# Altium footprint library Mylib.PcbLib: 16 footprints
Each footprint in its own frame and in the unit in brackets; x right, y up, seen from the top. Pads: shape width x height; smd on the part's side, far side on the other; paste and mask are expansions set on the pad; w line width, h text height; cw(c..) or ccw(c..) is an arc to the next point about the centre after c.
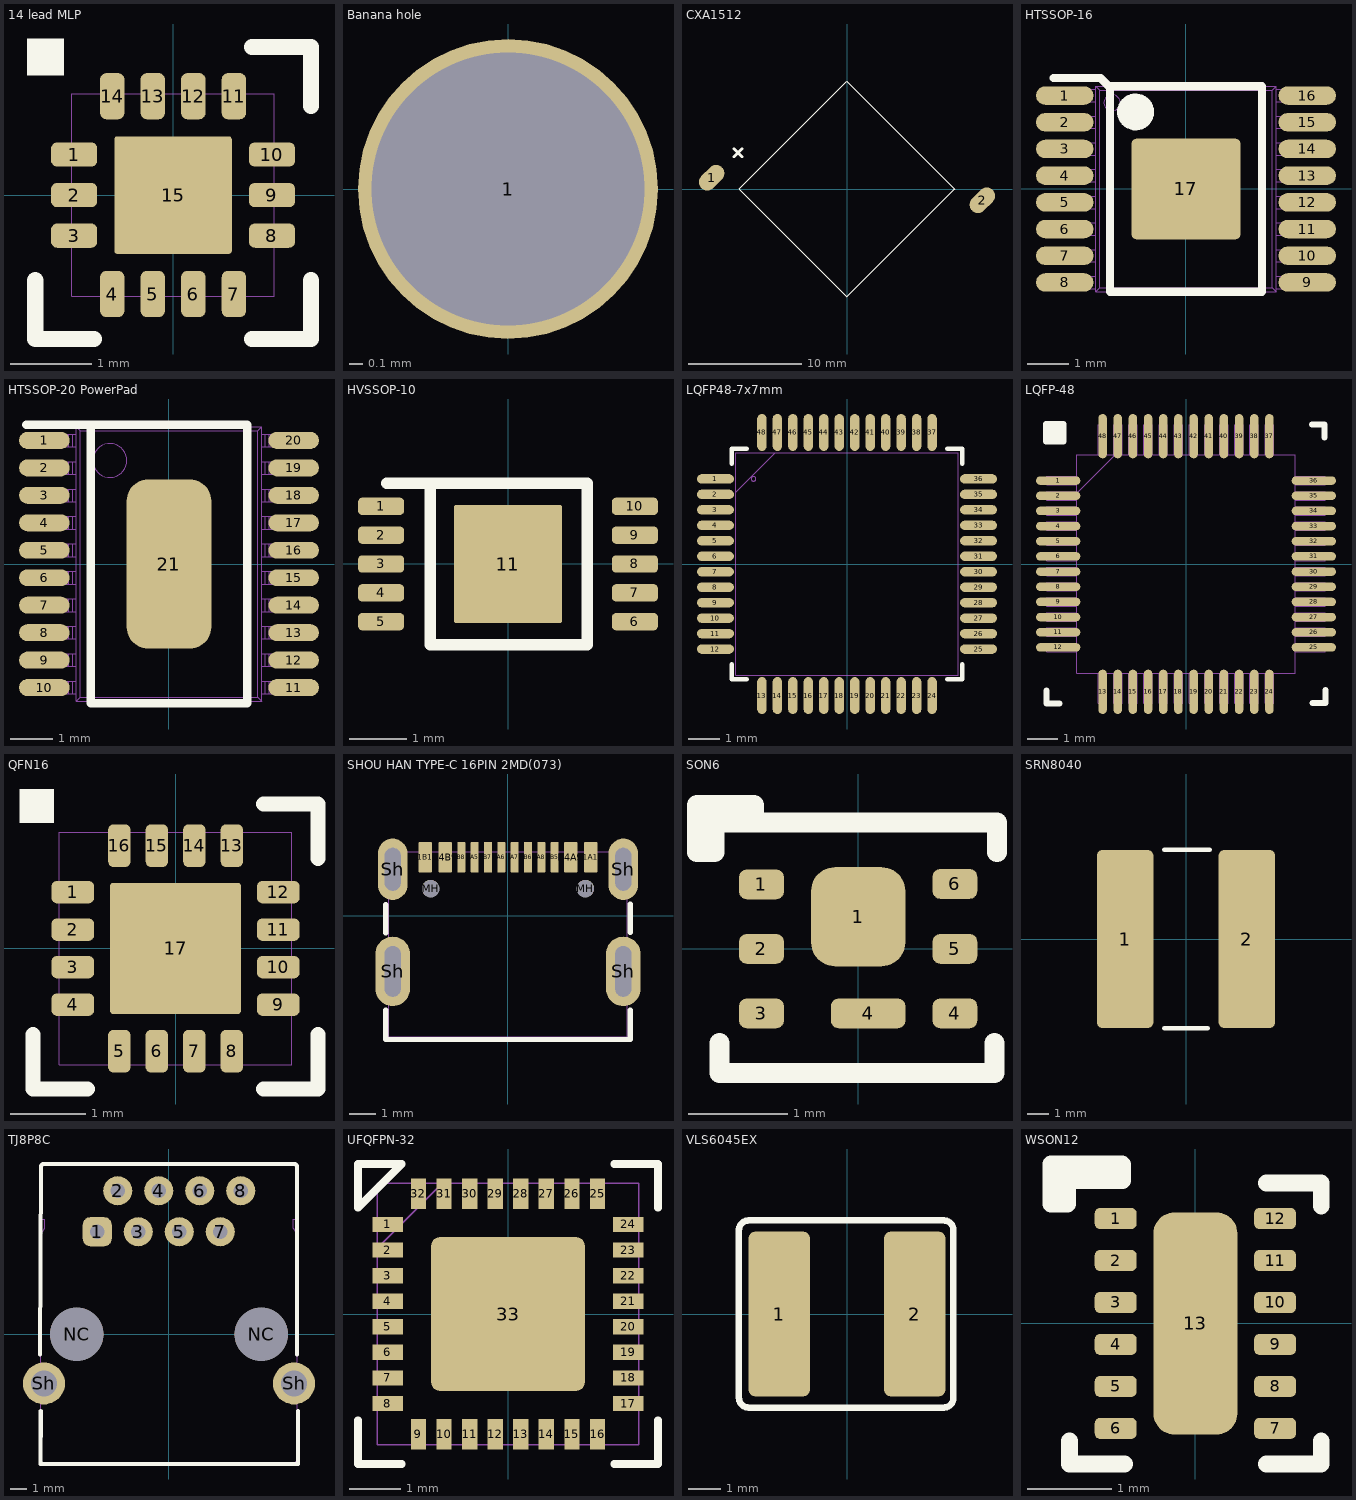
[diagram p0: the footprints below, top view; thin cyan lines are the x and y axes]

## 14 lead MLP [mm]
pads (15):
  rrect50% 0.57x0.3 smd: 1(-1.22,0.5) 2(-1.22,0) 3(-1.22,-0.5) 8(1.22,-0.5) 9(1.22,0) 10(1.22,0.5)
  rrect50% 0.3x0.57 smd: 4(-0.75,-1.22) 5(-0.25,-1.22) 6(0.25,-1.22) 7(0.75,-1.22) 11(0.75,1.22) 12(0.25,1.22) 13(-0.25,1.22) 14(-0.75,1.22)
  rrect5% 1.45x1.45 smd: 15(0,0)
Top Overlay:
  region: -1.8,1.475 -1.35,1.475 -1.35,1.925 -1.8,1.925
  lines w0.2: -1.7,-1.05 -1.7,-1.775 -0.975,-1.775 ; 0.975,-1.775 1.7,-1.775 1.7,-1.05 ; 0.975,1.825 1.7,1.825 1.7,1.1
Mechanical 9:
  text ".Comment" at -1.09,-1.627 h0.5
Mechanical 13:
  lines w0.013: -1.25,-1.25 -1.25,1.25 1.25,1.25 1.25,-1.25 -1.25,-1.25
3D body "User Library-MLP14_2P5X2P5_ONS.STEP": height 0.51, standoff 0, extent -1.245,-1.245 1.245,1.245

## Banana hole [mm] "Hole for Banana conn 2mm"
pads (1):
  round 2.2 hole 2 mask-1: 1(0,0)

## CXA1512 [mm]
pads (2):
  oval 2.6x1.5 smd rot 45: 1(-12,1) 2(12,-1)
Top Overlay:
  lines w0.1: -9.551,-0.004 -0.005,-9.55 ; -9.55,0.005 -0.004,9.551 ; -0.001,9.546 9.545,0 ; 0,-9.545 9.546,0.001
  lines w0.254: -10.008,2.856 -9.301,3.563 ; -10.008,3.563 -9.301,2.856

## HTSSOP-16 [mm]
pads (17):
  oval 1.4x0.45 smd: 1(-2.95,2.275) 2(-2.95,1.625) 3(-2.95,0.975) 4(-2.95,0.325) 5(-2.95,-0.325) 6(-2.95,-0.975) 7(-2.95,-1.625) 8(-2.95,-2.275) 9(2.95,-2.275) 10(2.95,-1.625) 11(2.95,-0.975) 12(2.95,-0.325) 13(2.95,0.325) 14(2.95,0.975) 15(2.95,1.625) 16(2.95,2.275)
  rrect10% 2.65x2.45 smd: 17(0,0)
Top Overlay:
  circle w0.1: c-1.225,1.875 r0.4
  region: -1.225,1.475 -1.305,1.475 -1.452,1.536 -1.564,1.648 -1.625,1.795 -1.625,1.875 -1.625,1.955 -1.564,2.102 -1.452,2.214 -1.305,2.275 -1.225,2.275 -1.145,2.275 -0.998,2.214 -0.886,2.102 -0.825,1.955 -0.825,1.875 -0.825,1.795 -0.886,1.648 -0.998,1.536 -1.145,1.475
  lines w0.2: -3.225,2.7 -2.075,2.7 -1.85,2.475 ; -1.85,-2.5 1.85,-2.5 1.85,2.5 -1.85,2.5 -1.85,-2.5
Mechanical 9:
  text ".Comment" at 0.3,-1.5 h0.4
Mechanical 13:
  circle w0.013: c-1.8,2.1 r0.2
  lines w0.013: -2.776,-2.425 -2.776,-2.125 ; -2.776,-1.775 -2.776,-1.475 ; -2.776,-1.125 -2.776,-0.825 ; -2.776,-0.475 -2.776,-0.175 ; -2.776,0.175 -2.776,0.475 ; -2.776,0.825 -2.776,1.125 ; -2.776,1.475 -2.776,1.775 ; -2.776,2.125 -2.776,2.425 ; -2.704,-2.425 -2.704,-2.125 ; -2.704,-1.775 -2.704,-1.475 ; -2.704,-1.125 -2.704,-0.825 ; -2.704,-0.475 -2.704,-0.175 ; -2.704,0.175 -2.704,0.475 ; -2.704,0.825 -2.704,1.125 ; -2.704,1.475 -2.704,1.775 ; -2.704,2.125 -2.704,2.425 ; -2.477,-2.425 -2.477,-2.125 ; -2.477,-1.775 -2.477,-1.475 ; -2.477,-1.125 -2.477,-0.825 ; -2.477,-0.475 -2.477,-0.175 ; -2.477,0.175 -2.477,0.475 ; -2.477,0.825 -2.477,1.125 ; -2.477,1.475 -2.477,1.775 ; -2.477,2.125 -2.477,2.425 ; -2.387,-2.425 -2.387,-2.125 ; -2.387,-1.775 -2.387,-1.475 ; -2.387,-1.125 -2.387,-0.825 ; -2.387,-0.475 -2.387,-0.175 ; -2.387,0.175 -2.387,0.475 ; -2.387,0.825 -2.387,1.125 ; -2.387,1.475 -2.387,1.775 ; -2.387,2.125 -2.387,2.425 ; -2.2,-2.425 -3.2,-2.425 -3.2,-2.125 -2.2,-2.125 ; -2.2,-1.775 -3.2,-1.775 -3.2,-1.475 -2.2,-1.475 ; -2.2,-1.125 -3.2,-1.125 -3.2,-0.825 -2.2,-0.825 ; -2.2,-0.475 -3.2,-0.475 -3.2,-0.175 -2.2,-0.175 ; -2.2,0.175 -3.2,0.175 -3.2,0.475 -2.2,0.475 ; -2.2,0.825 -3.2,0.825 -3.2,1.125 -2.2,1.125 ; -2.2,1.475 -3.2,1.475 -3.2,1.775 -2.2,1.775 ; -2.2,2.125 -3.2,2.125 -3.2,2.425 -2.2,2.425 ; 2.2,-2.425 3.2,-2.425 3.2,-2.125 2.2,-2.125 ; 2.2,-1.775 3.2,-1.775 3.2,-1.475 2.2,-1.475 ; 2.2,-1.125 3.2,-1.125 3.2,-0.825 2.2,-0.825 ; 2.2,-0.475 3.2,-0.475 3.2,-0.175 2.2,-0.175 ; 2.2,0.175 3.2,0.175 3.2,0.475 2.2,0.475 ; 2.2,0.825 3.2,0.825 3.2,1.125 2.2,1.125 ; 2.2,1.475 3.2,1.475 3.2,1.775 2.2,1.775 ; 2.2,2.125 3.2,2.125 3.2,2.425 2.2,2.425 ; 2.387,-2.425 2.387,-2.125 ; 2.387,-1.775 2.387,-1.475 ; 2.387,-1.125 2.387,-0.825 ; 2.387,-0.475 2.387,-0.175 ; 2.387,0.175 2.387,0.475 ; 2.387,0.825 2.387,1.125 ; 2.387,1.475 2.387,1.775 ; 2.387,2.125 2.387,2.425 ; 2.477,-2.425 2.477,-2.125 ; 2.477,-1.775 2.477,-1.475 ; 2.477,-1.125 2.477,-0.825 ; 2.477,-0.475 2.477,-0.175 ; 2.477,0.175 2.477,0.475 ; 2.477,0.825 2.477,1.125 ; 2.477,1.475 2.477,1.775 ; 2.477,2.125 2.477,2.425 ; 2.704,-2.425 2.704,-2.125 ; 2.704,-1.775 2.704,-1.475 ; 2.704,-1.125 2.704,-0.825 ; 2.704,-0.475 2.704,-0.175 ; 2.704,0.175 2.704,0.475 ; 2.704,0.825 2.704,1.125 ; 2.704,1.475 2.704,1.775 ; 2.704,2.125 2.704,2.425 ; 2.776,-2.425 2.776,-2.125 ; 2.776,-1.775 2.776,-1.475 ; 2.776,-1.125 2.776,-0.825 ; 2.776,-0.475 2.776,-0.175 ; 2.776,0.175 2.776,0.475 ; 2.776,0.825 2.776,1.125 ; 2.776,1.475 2.776,1.775 ; 2.776,2.125 2.776,2.425 ; -2.2,-2.5 2.2,-2.5 ; -2.2,-2.5 -2.2,2.5 ; -2.2,-2.5 -2.1,-2.4 ; -2.2,2.5 2.2,2.5 ; -2.2,2.5 -2.1,2.4 ; -2.1,-2.4 2.1,-2.4 ; -2.1,-2.4 -2.1,2.4 ; -2.1,2.4 2.1,2.4 ; 2.1,-2.4 2.1,2.4 ; 2.1,-2.4 2.2,-2.5 ; 2.1,2.4 2.2,2.5 ; 2.2,-2.5 2.2,2.5
3D body "TSSOP16.STEP": height 1.2, standoff 0, extent -3.2,-2.5 3.2,2.5

## HTSSOP-20 PowerPad [mm]
pads (21):
  oval 1.2x0.4 smd: 1(-2.95,2.925) 2(-2.95,2.275) 3(-2.95,1.625) 4(-2.95,0.975) 5(-2.95,0.325) 6(-2.95,-0.325) 7(-2.95,-0.975) 8(-2.95,-1.625) 9(-2.95,-2.275) 10(-2.95,-2.925) 11(2.95,-2.925) 12(2.95,-2.275) 13(2.95,-1.625) 14(2.95,-0.975) 15(2.95,-0.325) 16(2.95,0.325) 17(2.95,0.975) 18(2.95,1.625) 19(2.95,2.275) 20(2.95,2.925)
  rrect50% 2x4 smd: 21(0,0)
Top Overlay:
  lines w0.2: -3.375,3.3 -1.85,3.3 ; -1.85,3.3 1.85,3.3 1.85,-3.3 -1.85,-3.3 -1.85,3.3
Mechanical 9:
  text ".Comment" at 0.3,-1.5 h0.4
Mechanical 13:
  drawing of 153 lines, arcs and shapes, not listed
3D body "TSSOP20.STEP": height 1.35, standoff 0, extent -3.2,-3.25 3.2,3.25

## HVSSOP-10 [mm]
pads (11):
  rrect50% 0.8x0.3 smd: 1(-2.2,1) 2(-2.2,0.5) 3(-2.2,0) 4(-2.2,-0.5) 5(-2.2,-1) 6(2.2,-1) 7(2.2,-0.5) 8(2.2,0) 9(2.2,0.5) 10(2.2,1)
  rrect5% 1.88x2.05 smd: 11(0,0)
Top Overlay:
  lines w0.2: -2.1,1.4 -1.35,1.4 -1.35,-1.4 1.375,-1.4 1.375,1.4 -1.525,1.4
Mechanical 9:
  text ".Comment" at -1.145,-0.22 h0.3
3D body "User Library-DGQ (S-PDSO-G10).STEP": height 1.1, standoff 0, extent -2.518,-1.55 2.518,1.55

## LQFP48-7x7mm [mm]
pads (48):
  oval 1.194x0.305 smd paste+0 mask+0: 1(-4.25,2.75) 2(-4.25,2.25) 3(-4.25,1.75) 4(-4.25,1.25) 5(-4.25,0.75) 6(-4.25,0.25) 7(-4.25,-0.25) 8(-4.25,-0.75) 9(-4.25,-1.25) 10(-4.25,-1.75) 11(-4.25,-2.25) 12(-4.25,-2.75) 25(4.25,-2.75) 26(4.25,-2.25) 27(4.25,-1.75) 28(4.25,-1.25) 29(4.25,-0.75) 30(4.25,-0.25) 31(4.25,0.25) 32(4.25,0.75) 33(4.25,1.25) 34(4.25,1.75) 35(4.25,2.25) 36(4.25,2.75)
  oval 0.305x1.194 smd paste+0 mask+0: 13(-2.75,-4.25) 14(-2.25,-4.25) 15(-1.75,-4.25) 16(-1.25,-4.25) 17(-0.75,-4.25) 18(-0.25,-4.25) 19(0.25,-4.25) 20(0.75,-4.25) 21(1.25,-4.25) 22(1.75,-4.25) 23(2.25,-4.25) 24(2.75,-4.25) 37(2.75,4.25) 38(2.25,4.25) 39(1.75,4.25) 40(1.25,4.25) 41(0.75,4.25) 42(0.25,4.25) 43(-0.25,4.25) 44(-0.75,4.25) 45(-1.25,4.25) 46(-1.75,4.25) 47(-2.25,4.25) 48(-2.75,4.25)
Top Overlay:
  lines w0.152: -3.721,-3.235 -3.721,-3.721 -3.235,-3.721 ; -3.721,3.235 -3.721,3.721 -3.235,3.721 ; 3.235,-3.721 3.721,-3.721 3.721,-3.235 ; 3.235,3.721 3.721,3.721 3.721,3.235
Mechanical 9:
  text ".Comment" at -1.524,-1.778 h0.6
Mechanical 13:
  circle w0: c-3.018,2.75 r0.076
  lines w0.025: -3.594,2.324 -2.324,3.594 ; -3.594,-3.594 3.594,-3.594 3.594,3.594 -3.594,3.594 -3.594,-3.594
3D body: height 0.25, standoff 0, extent 0,0 0.254,0.254
3D body "LQFP-48.step": height 1.6, standoff 0, extent -4.597,-4.597 4.597,4.597

## LQFP-48 [mil]
pads (48):
  rrect100% 57.56x11 smd paste+0 mask+0: 1(-166,108.27) 2(-166,88.58) 3(-166,68.9) 4(-166,49.21) 5(-166,29.53) 6(-166,9.84) 7(-166,-9.84) 8(-166,-29.53) 9(-166,-49.21) 10(-166,-68.9) 11(-166,-88.58) 12(-166,-108.27) 25(166,-108.27) 26(166,-88.58) 27(166,-68.9) 28(166,-49.21) 29(166,-29.53) 30(166,-9.84) 31(166,9.84) 32(166,29.53) 33(166,49.21) 34(166,68.9) 35(166,88.58) 36(166,108.27)
  rrect100% 11x57.56 smd paste+0 mask+0: 13(-108.27,-166) 14(-88.58,-166) 15(-68.9,-166) 16(-49.21,-166) 17(-29.53,-166) 18(-9.84,-166) 19(9.84,-166) 20(29.53,-166) 21(49.21,-166) 22(68.9,-166) 23(88.58,-166) 24(108.27,-166) 37(108.27,166) 38(88.58,166) 39(68.9,166) 40(49.21,166) 41(29.53,166) 42(9.84,166) 43(-9.84,166) 44(-29.53,166) 45(-49.21,166) 46(-68.9,166) 47(-88.58,166) 48(-108.27,166)
Top Overlay:
  region: -181.81,159.17 -181.81,181.81 -159.17,181.81 -159.17,159.17
  lines w7.87: -181.1,-164.37 -181.1,-181.1 -164.37,-181.1 ; 163.39,181.1 180.12,181.1 180.12,164.37 ; 164.37,-180.61 181.1,-180.61 181.1,-163.88 ; -181.81,159.17 -181.81,181.81 -159.17,181.81 -159.17,159.17 -181.81,159.17
Mechanical 9:
  text ".Comment" at -86.61,-9.84 h19.68
Mechanical 13:
  drawing of 197 lines, arcs and shapes, not listed
3D body "LQFP-48.step": height 63.11, standoff 0, extent -180.98,-180.98 180.99,180.99
3D body: height 10, standoff 0, extent 0,0 10,10

## QFN16 [mm]
pads (17):
  rrect50% 0.57x0.3 smd: 1(-1.37,0.75) 2(-1.37,0.25) 3(-1.37,-0.25) 4(-1.37,-0.75) 9(1.37,-0.75) 10(1.37,-0.25) 11(1.37,0.25) 12(1.37,0.75)
  rrect50% 0.3x0.57 smd: 5(-0.75,-1.37) 6(-0.25,-1.37) 7(0.25,-1.37) 8(0.75,-1.37) 13(0.75,1.37) 14(0.25,1.37) 15(-0.25,1.37) 16(-0.75,1.37)
  rrect5% 1.75x1.75 smd: 17(0,0)
Top Overlay:
  region: -2.075,1.675 -1.625,1.675 -1.625,2.125 -2.075,2.125
  lines w0.2: -1.9,-1.15 -1.9,-1.875 -1.175,-1.875 ; 1.175,-1.875 1.9,-1.875 1.9,-1.15 ; 1.175,1.925 1.9,1.925 1.9,1.2
Mechanical 9:
  text ".Comment" at -1.09,-1.627 h0.5
Mechanical 13:
  lines w0.013: -1.55,-1.55 1.55,-1.55 1.55,1.55 -1.55,1.55 -1.55,-1.55
3D body "ALSRobot-QFN16 3x3.STEP": height 0.9, standoff 0, extent -1.524,-1.521 1.518,1.521

## SHOU HAN TYPE-C 16PIN 2MD(073) [mm]
pads (18):
  rrect20% 0.5x1.15 smd: A1B12(-3.1,2.187) A4B9(-2.35,2.187) B1A12(3.1,2.187) B4A9(2.35,2.187)
  rrect20% 0.3x1.15 smd: A5(-1.25,2.187) A6(-0.25,2.187) A7(0.25,2.187) A8(1.25,2.187) B5(1.75,2.187) B6(0.75,2.187) B7(-0.75,2.187) B8(-1.75,2.187)
  round 0.65 hole 0.65 unplated: MH(-2.9,1.013) MH(2.9,1.013)
  oval 1.3x2.6 hole 1.9 slot 0.6 at 0 deg: Sh(-4.32,-2.087) Sh(4.32,-2.087)
  oval 1.1x2.3 hole 1.6 slot 0.6 at 0 deg: Sh(-4.32,1.738) Sh(4.32,1.738)
Top Overlay:
  lines w0.2: -4.575,-4.637 4.575,-4.637 4.575,-3.537 ; -4.575,-4.593 -4.575,-3.537 ; -4.575,-0.637 -4.575,0.418 ; 4.575,-0.618 4.575,0.438
Mechanical 9:
  text ".Comment" at -1.911,-0.37 h0.5
Mechanical 13:
  lines w0.013: -4.475,-4.537 4.475,-4.537 4.475,2.4 -4.475,2.4 -4.475,-4.537
3D body "DX07S016JA1R1500--3DModel-STEP-56544.STEP": height 3.31, standoff -1.05, extent -4.47,-4.525 4.47,2.375

## SON6 [mm]
pads (8):
  rrect50% 0.45x0.3 smd: 1(-0.975,0.65) 2(-0.975,0) 3(-0.975,-0.65) 4(0.975,-0.65) 5(0.975,0) 6(0.975,0.655)
  rrect50% 0.95x1 smd: 1(0,0.325)
  rrect50% 0.75x0.3 smd: 4(0.1,-0.65)
Top Overlay:
  lines w0.2: -1.625,1.275 -1.625,0.975 ; -1.6,1.275 1.399,1.275 1.399,0.975 ; -1.4,-0.95 -1.4,-1.25 1.375,-1.25 1.375,-0.95 ; -1.05,1.275 -1.05,1.45 -1.625,1.45 ; -1.625,0.975 -1.625,0.975 ; -1.625,0.975 -1.45,0.975 -1.45,1.275 -1.625,1.45 ; -1.625,0.975 -1.625,1.45
Mechanical 9:
  text ".Comment" at 0.37,-1.911 h0.5
3D body "User Library-CSD87502Q2.STEP": height 0.8, standoff 0, extent -1.001,-1 1.001,1

## SRN8040 [mm]
pads (2):
  rrect20% 2.6x8.2 smd: 1(-2.8,0) 2(2.8,0)
Top Overlay:
  lines w0.2: -1,-4.1 1,-4.1 ; -1,4.1 1.1,4.1
Mechanical 9:
  text ".Comment" at -1.308,-1.944 h0.6
3D body "User Library-Inductor SRN8040 Series.STEP": height 4, standoff 0, extent -4.009,-4 4.009,4

## TJ8P8C [mm]
pads (12):
  rrect50% 1.8x1.8 hole 0.9: 1(-4.445,6.35)
  round 1.8 hole 0.9: 2(-3.175,8.89) 3(-1.905,6.35) 4(-0.635,8.89) 5(0.635,6.35) 6(1.905,8.89) 7(3.175,6.35) 8(4.445,8.89)
  round 3.3 hole 3.3 unplated: NC(-5.715,0) NC(5.715,0)
  round 2.6 hole 1.6: Sh(-7.745,-3.05) Sh(7.745,-3.05)
Top Overlay:
  lines w0.25: -8,-1.25 -7.937,10.346 cw(c-7.737,10.346) -7.737,10.546 7.738,10.546 cw(c7.738,10.346) 7.938,10.346 7.938,-1.25 ; -7.95,-8.04 -7.946,-4.75 ; -7.9,-8.04 7.988,-8.04 ; 7.979,-4.75 8,-8
Mechanical 9:
  text ".Comment" at 0.55,-3.016 h0.8
Mechanical 13:
  lines w0.013: -7.937,-7.715 ccw(c-7.687,-7.715) -7.687,-7.965 7.688,-7.965 ccw(c7.688,-7.715) 7.938,-7.715 7.938,6.047 ccw(c7.44,6.047) 7.847,6.333 7.684,6.567 7.684,7.117 7.938,7.117 7.938,10.346 ccw(c7.738,10.346) 7.738,10.546 -7.737,10.546 ccw(c-7.737,10.346) -7.937,10.346 -7.937,7.117 -7.683,7.117 -7.683,6.567 -7.847,6.333 ccw(c-7.44,6.047) -7.937,6.047 -7.937,-7.715
3D body "User Library-TJ12-8P8C.STEP": height 12.7, standoff -3.36, extent -7.62,-8.1 7.62,10.188

## UFQFPN-32 [mm]
pads (33):
  rect 0.6x0.3 smd paste-0.15 mask+0: 1(-2.35,1.75) 2(-2.35,1.25) 3(-2.35,0.75) 4(-2.35,0.25) 5(-2.35,-0.25) 6(-2.35,-0.75) 7(-2.35,-1.25) 8(-2.35,-1.75) 17(2.35,-1.75) 18(2.35,-1.25) 19(2.35,-0.75) 20(2.35,-0.25) 21(2.35,0.25) 22(2.35,0.75) 23(2.35,1.25) 24(2.35,1.75)
  rect 0.3x0.6 smd paste-0.15 mask+0: 9(-1.75,-2.35) 10(-1.25,-2.35) 11(-0.75,-2.35) 12(-0.25,-2.35) 13(0.25,-2.35) 14(0.75,-2.35) 15(1.25,-2.35) 16(1.75,-2.35) 25(1.75,2.35) 26(1.25,2.35) 27(0.75,2.35) 28(0.25,2.35) 29(-0.25,2.35) 30(-0.75,2.35) 31(-1.25,2.35) 32(-1.75,2.35)
  rrect10% 3x3 smd paste-0.15 mask+0: 33(0,0)
Top Overlay:
  lines w0.152: -2.931,-2.078 -2.931,-2.931 -2.078,-2.931 ; 2.078,-2.931 2.931,-2.931 2.931,-2.078 ; 2.078,2.931 2.931,2.931 2.931,2.078 ; -2.931,2.078 -2.078,2.931 -2.931,2.931 -2.931,2.078
Mechanical 9:
  text ".Comment" at -1.349,-1.603 h0.6
Mechanical 13:
  lines w0.025: -2.55,1.28 -1.28,2.55 ; -2.55,-2.55 -2.55,2.55 2.55,2.55 2.55,-2.55 -2.55,-2.55
  text "*" at -2.114,1.365 h1.27
3D body: height 0.25, standoff 0, extent 0,0 0.254,0.254
3D body "UFQFPN-32.step": height 1.4, standoff 0, extent -2.601,-2.601 2.601,2.601

## VLS6045EX [mm] "Inductor"
pads (2):
  rrect20% 1.9x5.1 smd: 1(-2.1,0) 2(2.1,0)
Top Overlay:
  lines w0.2: -3.35,-2.6 ccw(c-3.05,-2.6) -3.05,-2.9 3,-2.9 ccw(c3,-2.6) 3.3,-2.6 ; -3.35,-2.575 -3.35,2.625 ; -3.35,2.6 cw(c-3.05,2.6) -3.05,2.9 ; -3.025,2.9 2.975,2.9 ; 3,2.9 cw(c3,2.6) 3.3,2.6 3.3,-2.575
Mechanical 9:
  text ".Comment" at -0.872,-1.31 h0.4
Mechanical 13:
  lines w0.05: -3.35,-2.6 ccw(c-3.05,-2.6) -3.05,-2.9 3,-2.9 ccw(c3,-2.6) 3.3,-2.6 ; -3.35,-2.575 -3.35,2.625 ; -3.35,2.6 cw(c-3.05,2.6) -3.05,2.9 ; -3.025,2.9 2.975,2.9 ; 3,2.9 cw(c3,2.6) 3.3,2.6 3.3,-2.575
3D body "User Library-SRN6045TA Series.STEP": height 4.2, standoff 0, extent -2.975,-3 3.025,3

## WSON12 [mm]
pads (13):
  rrect50% 0.5x0.25 smd: 1(-0.95,1.25) 2(-0.95,0.75) 3(-0.95,0.25) 4(-0.95,-0.25) 5(-0.95,-0.75) 6(-0.95,-1.25) 7(0.95,-1.25) 8(0.95,-0.75) 9(0.95,-0.25) 10(0.95,0.25) 11(0.95,0.75) 12(0.95,1.25)
  rrect50% 1x2.65 smd paste-1: 13(0,0)
Top Overlay:
  region: -1.725,1.425 -1.725,1.9 -0.875,1.9 -0.87,1.895 -0.87,1.7 -1.525,1.7 -1.525,1.425
  lines w0.2: -1.5,-1.4 -1.5,-1.675 -0.845,-1.675 ; -1.05,1.9 -1.045,1.895 ; -0.875,1.9 -1.725,1.9 -1.725,1.425 -1.525,1.425 -1.525,1.7 -0.87,1.7 -0.87,1.895 ; 0.845,-1.675 1.5,-1.675 1.5,-1.4 ; 0.845,1.675 1.5,1.675 1.5,1.4
Top Paste:
  rectangle: -0.35,-1.275 0.35,-0.2
  rectangle: -0.35,0.175 0.35,1.25
Mechanical 9:
  text ".Comment" at -1.911,-0.12 h0.5
3D body "User Library-DSS0012B.STEP": height 0.8, standoff 0, extent -1,-1.5 1,1.5